# Altium schematic symbol library Connectors.SchLib: 17 symbols
Pins are listed as number, name and electrical type; pins without a type are passive.

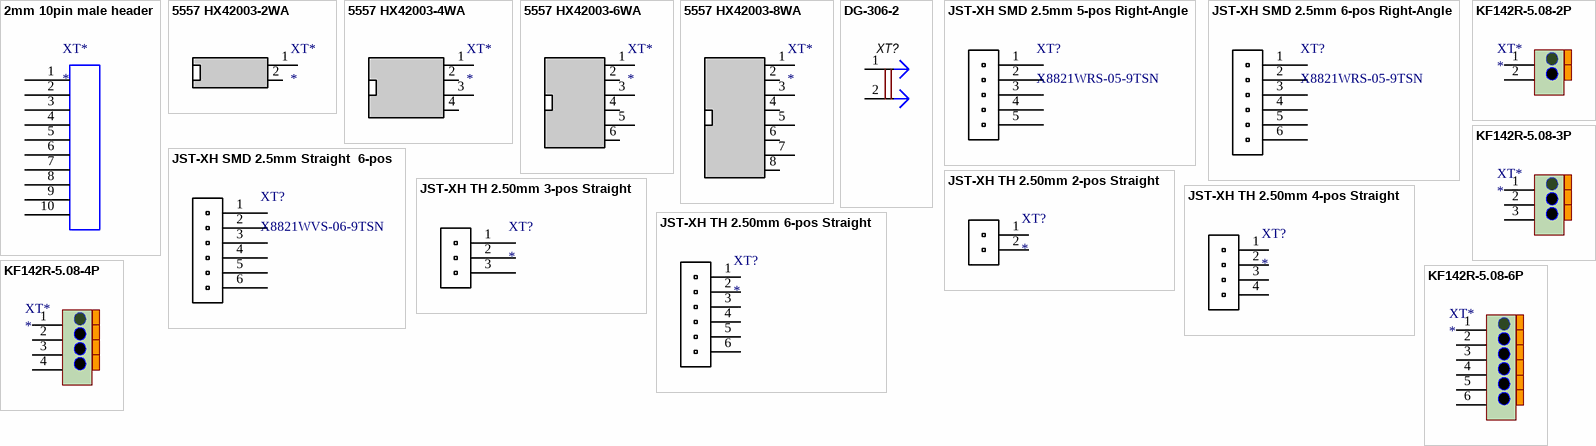
[diagram p0: symbols 2mm 10pin male header to KF142R-5.08-6P]

## 2mm 10pin male header
designator XT*
ComponentLink1Description: LCSC - CJT(Changjiang Connectors) A2005WV-10P; ComponentLink1URL: https://lcsc.com/product-detail/Pin-Header-Female-Header_CJT-Changjiang-Connectors-A2005WV-10P_C225262.html/?href=jlc-SMT; LCSC Part #: C225262; JLCPCB Part Type: Extended
footprint 2mm 10pin male header
pins: 1, 2, 3, 4, 5, 6, 7, 8, 9, 10

## 5557 HX42003-2WA
designator XT*
5557 Right-Angle Snap-in Power Connector, 1*2 Pin, 1.6mm PCB, AWG30-18, 300V AC/DC, 9A, 0.015R; ComponentLink1Description: Alibaba; ComponentLink1URL: https://cnkaifa.en.alibaba.com/product/60461645204-804219156/5557_5569_molex_4_2mm_4_pin_6_pin_automotive_connector.html?spm=a2700.shop_plser.41413.13.4a1f3b20dfrnSs
footprint 5557 HX42003-2WA
pins: 1, 2

## 5557 HX42003-4WA
designator XT*
5557 Right-Angle Snap-in Power Connector, 2*2 Pin, 1.6mm PCB, AWG30-18, 300V AC/DC, 9A, 0.015R; ComponentLink1Description: Alibaba; ComponentLink1URL: https://cnkaifa.en.alibaba.com/product/60461645204-804219156/5557_5569_molex_4_2mm_4_pin_6_pin_automotive_connector.html?spm=a2700.shop_plser.41413.13.4a1f3b20dfrnSs
footprint 5557 HX42003-4WA
pins: 1, 2, 3, 4

## 5557 HX42003-6WA
designator XT*
5557 Right-Angle Snap-in Power Connector, 3*2 Pin, 1.6mm PCB, AWG30-18, 300V AC/DC, 9A, 0.015R; ComponentLink1Description: Alibaba; ComponentLink1URL: https://cnkaifa.en.alibaba.com/product/60461645204-804219156/5557_5569_molex_4_2mm_4_pin_6_pin_automotive_connector.html?spm=a2700.shop_plser.41413.13.4a1f3b20dfrnSs
footprint 5557 HX42003-6WA
pins: 1, 2, 3, 4, 5, 6

## 5557 HX42003-8WA
designator XT*
5557 Right-Angle Snap-in Power Connector, 4*2 Pin, 1.6mm PCB, AWG30-18, 300V AC/DC, 9A, 0.015R; ComponentLink1Description: Alibaba; ComponentLink1URL: https://cnkaifa.en.alibaba.com/product/60461645204-804219156/5557_5569_molex_4_2mm_4_pin_6_pin_automotive_connector.html?spm=a2700.shop_plser.41413.13.4a1f3b20dfrnSs
footprint 5557 HX42003-8WA
pins: 1, 2, 3, 4, 5, 6, 7, 8

## DG-306-2
designator XT?
P=5.0mm Screw terminal ROHS; Value: WJ301V-5.0-2P; ComponentLink1Description: LCSC - Ningbo Kangnex Elec WJ301V-5.0-2P; ComponentLink1URL: https://lcsc.com/product-detail/Pluggable-System-Terminal-Block_Ningbo-Kangnex-Elec-WJ301V-5-0-2P_C8475.html; LCSC Part #: C8475; JLCPCB Part Type: Extended
footprint DG-306-2
pins: 1, 2

## JST-XH SMD 2.5mm 5-pos Right-Angle
designator XT?, comment X8821WRS-05-9TSN
XH Header Male Pin Right-Angle 0.098"(2.50mm) 5 SMD,P=2.5mm Wire To Board / Wire To Wire Connector RoHS; ComponentLink1Description: LCSC - XKB Connectivity X8821WRS-05-9TSN; ComponentLink1URL: https://lcsc.com/product-detail/Wire-To-Board-Wire-To-Wire-Connector_XKB-Connectivity-X8821WRS-05-9TSN_C397435.html; LCSC Part #: C397435; JLCPCB Part Type: unvailable
footprint JST XH SMD 2.5mm 5-pos
pins: 1, 2, 3, 4, 5

## JST-XH SMD 2.5mm 6-pos Right-Angle
designator XT?, comment X8821WRS-05-9TSN
XH Header Male Pin Right-Angle 0.098"(2.50mm) 5 SMD,P=2.5mm Wire To Board / Wire To Wire Connector RoHS; ComponentLink1Description: LCSC - XKB Connectivity X8821WRS-05-9TSN; ComponentLink1URL: https://lcsc.com/product-detail/Wire-To-Board-Wire-To-Wire-Connector_XKB-Connectivity-X8821WRS-05-9TSN_C397435.html; LCSC Part #: C397435; JLCPCB Part Type: unvailable
footprint JST XH SMD 2.5mm 6-pos
pins: 1, 2, 3, 4, 5, 6

## JST-XH SMD 2.5mm Straight  6-pos
designator XT?, comment X8821WVS-06-9TSN
XH Header Male Pin Straight 0.098"(2.50mm) 6 SMD,P=2.5mm Wire To Board / Wire To Wire Connector RoHS; ComponentLink1Description: LCSC - XKB Connectivity X8821WVS-06-9TSN; ComponentLink1URL: https://lcsc.com/product-detail/Wire-To-Board-Wire-To-Wire-Connector_XKB-Connectivity-X8821WVS-06-9TSN_C397441.html; LCSC Part #: C397441; JLCPCB Part Type: Extended
footprint JST XH SMD 2.5mm straight 6-pos
pins: 1, 2, 3, 4, 5, 6

## JST-XH TH 2.50mm 2-pos Straight
designator XT?
XH Header Male Pin Straight 0.098"(2.50mm) 2 Through Hole,P=2.5mm Wire To Board / Wire To Wire Connector RoHS; ComponentLink1Description: LCSC - JST B3B-XH-AM; ComponentLink1URL: https://lcsc.com/product-detail/Wire-To-Board-Wire-To-Wire-Connector_JST-Sales-America-B2B-XH-AM-LF-SN_C161869.html/?href=jlc-SMT; LCSC Part #: C161869; JLCPCB Part Type: Extended
footprint JST-XH TH 2.5mm 2-pos
pins: 1, 2

## JST-XH TH 2.50mm 3-pos Straight
designator XT?
XH Header Male Pin 0.098"(2.50mm) 3 Through Hole,P=2.5mm Wire To Board / Wire To Wire Connector RoHS; ComponentLink1Description: LCSC - JST B3B-XH-AM; ComponentLink1URL: https://lcsc.com/product-detail/Wire-To-Board-Wire-To-Wire-Connector_JST-Sales-America-B3B-XH-AM-LF-SN_C161870.html; LCSC Part #: C161870; JLCPCB Part Type: Extended
footprint JST-XH TH 2.5mm 3-pos
pins: 1, 2, 3

## JST-XH TH 2.50mm 4-pos Straight
designator XT?
XH Header Male Pin 0.098"(2.50mm) 4 Through Hole,P=2.5mm Wire To Board / Wire To Wire Connector RoHS; ComponentLink1Description: LCSC - JST B4B-XH-AM; ComponentLink1URL: https://lcsc.com/product-detail/Wire-To-Board-Wire-To-Wire-Connector_JST-Sales-America-B4B-XH-AM-LF-SN_C161871.html/?href=jlc-SMT; LCSC Part #: C161871; JLCPCB Part Type: Extended
footprint JST-XH TH 2.5mm 4-pos
pins: 1, 2, 3, 4

## JST-XH TH 2.50mm 6-pos Straight
designator XT?
6 Header XH 0.098"(2.50mm) Male Pin Through Hole,P=2.5mm Wire To Board / Wire To Wire Connector ROHS; ComponentLink1Description: LCSC - B6B-XH-AM(LF)(SN); ComponentLink1URL: https://lcsc.com/product-detail/Wire-To-Board-Wire-To-Wire-Connector_JST-Sales-America-B6B-XH-AM-LF-SN_C161873.html; LCSC Part #: C161873; JLCPCB Part Type: Extended
footprint JST-XH TH 2.5mm 6-pos
pins: 1, 2, 3, 4, 5, 6

## KF142R-5.08-2P
designator XT*
P-5.08mm Spring Clamp System Terminal Block RoHS; ComponentLink1Description: LCSC - Cixi Kefa Elec KF142R-5.08-2P; ComponentLink1URL: https://lcsc.com/product-detail/New-Quadratic-Unclassified-Data_Cixi-Kefa-Elec-KF142R-5-08-2P_C475144.html; LCSC Part #: C475144
footprint KF142R-5.08-2P
pins: 1, 2

## KF142R-5.08-3P
designator XT*
P-5.08mm Spring Clamp System Terminal Block RoHS; ComponentLink1Description: LCSC - Cixi Kefa Elec KF142R-5.08-3P; ComponentLink1URL: https://lcsc.com/product-detail/Spring-Clamp-System-Terminal-Block_Cixi-Kefa-Elec-KF142R-5-08-3P_C475145.html; LCSC Part #: C475145
footprint KF142R-5.08-3P
pins: 1, 2, 3

## KF142R-5.08-4P
designator XT*
P-5.08mm Spring Clamp System Terminal Block RoHS; ComponentLink1Description: LCSC - Cixi Kefa Elec KF142R-5.08-4P; ComponentLink1URL: https://lcsc.com/product-detail/Spring-Clamp-System-Terminal-Block_Cixi-Kefa-Elec-KF142R-5-08-4P_C475146.html; LCSC Part #: C475146
footprint KF142R-5.08-4P
pins: 1, 2, 3, 4

## KF142R-5.08-6P
designator XT*
P-5.08mm Spring Clamp System Terminal Block RoHS; ComponentLink1Description: LCSC - Cixi Kefa Elec KF142R-5.08-6P; ComponentLink1URL: https://lcsc.com/product-detail/New-Quadratic-Unclassified-Data_Cixi-Kefa-Elec-KF142R-5-08-6P_C475148.html; LCSC Part #: C475148
footprint KF142R-5.08-6P
pins: 1, 2, 3, 4, 5, 6